# EAGLE library part MCP47FEB*2 (library bschulz)
MCP47FEBx2 - 8/10/12 Bit, Dual Channel, Digital to Analog Converter Characteristics: VCC: 2.7~5.5V IQ: 380μA (On), 0.65μA (Shutdown) Operating Temperature: -40°C to 125°C Number of Outputs: 2 Settling Time: 6μs Number of Bits: 8 (MCP47FEB02), 10 (MCP47FEB12), 12 (MCP47FEB22) Digikey: MCP47FEB22A0-E/ST-ND (MCP47FEB22, A0) <https://www.digikey.com/product-detail/en/microchip-technology/MCP47FEB22A0-E-ST/MCP47FEB22A0-E-ST-ND/5033357>
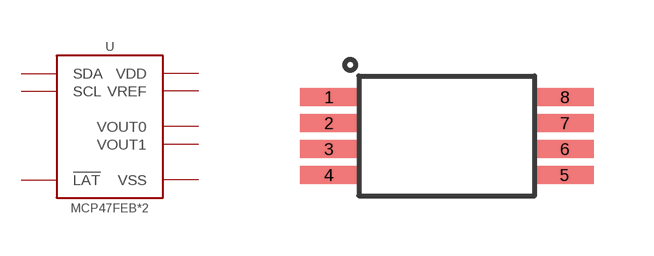
[diagram p90: symbol with the pads of TTSOP_8; footprint TTSOP_8]

Designator prefix U

## MCP47FEB2TTSOP, MCP47FEB02TTSOP, MCP47FEB12TTSOP, MCP47FEB22TTSOP (DIGIKEY: MCP47FEB22A0-E/ST-ND; MF: Microchip; MPN: MCP47FEB22A0-E/ST)  [TTSOP_8]
1  VDD  pwr
2  VREF  pwr
3  VOUT0  out
4  VOUT1  out
5  VSS  pwr
6  !LAT  in
7  SCL
8  SDA

## Footprint TTSOP_8 (pad centres in mm)
smd 1.45 x 0.45: 1 -2.95,0.975; 2 -2.95,0.325; 3 -2.95,-0.325; 4 -2.95,-0.975; 5 2.95,-0.975; 6 2.95,-0.325; 7 2.95,0.325; 8 2.95,0.975